# Altium footprint library 0603(1608metric).PcbLib: 3 footprints
Each footprint in its own frame and in the unit in brackets; x right, y up, seen from the top. Pads: shape width x height; smd on the part's side, far side on the other; paste and mask are expansions set on the pad; w line width, h text height; cw(c..) or ccw(c..) is an arc to the next point about the centre after c.
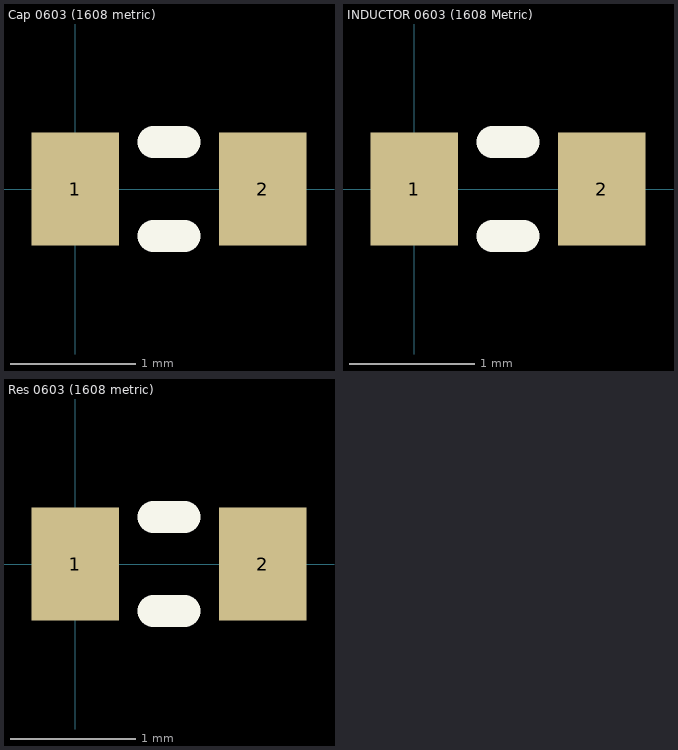
[diagram p0: the footprints below, top view; thin cyan lines are the x and y axes]

## Cap 0603 (1608 metric) [mm]
height 0.55
pads (2):
  rect 0.7x0.9 smd: 1(0,0) 2(1.5,0)
Top Overlay:
  lines w0.254: 0.625,-0.375 0.875,-0.375 ; 0.625,0.375 0.875,0.375
3D body: height 0.55, standoff 0, extent -0.051,-0.4 1.551,0.4

## INDUCTOR 0603 (1608 Metric) [mm]
pads (2):
  rect 0.7x0.9 smd: 1(0,0) 2(1.5,0)
Top Overlay:
  lines w0.254: 0.625,-0.375 0.875,-0.375 ; 0.625,0.375 0.875,0.375
3D body: height 0.55, standoff 0, extent -0.051,-0.4 1.551,0.4

## Res 0603 (1608 metric) [mm]
height 0.55
pads (2):
  rect 0.7x0.9 smd: 1(0,0) 2(1.5,0)
Top Overlay:
  lines w0.254: 0.625,-0.375 0.875,-0.375 ; 0.625,0.375 0.875,0.375
3D body: height 0.55, standoff 0, extent -0.051,-0.4 1.551,0.4